# Altium schematic symbol library AP7361-33FGE-7.SchLib: 1 symbol
Pins are listed as number, name and electrical type; pins without a type are passive.

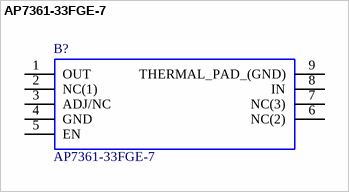
[diagram p0: symbol AP7361-33FGE-7]

## AP7361-33FGE-7
designator B?
DiodesZetex AP7361-33FGE-7, LDO Voltage Regulator, 1A, 3.3 V 3%, 2.2  6 Vin, 8-Pin DFN; Manufacturer_Name: Diodes Inc.; Geometry.Height: 0.6mm; Supplier_Name: RS; RS Part Number: 8228883; Manufacturer_Part_Number: AP7361-33FGE-7; Allied_Number: *; Other Part Number: *; Datasheet Link: https://www.diodes.com/assets/Datasheets/AP7361.pdf; 3D Package: *
footprint SON65P300X300X60-9N
pins: 1 OUT, 2 NC(1), 3 ADJ/NC, 4 GND, 5 EN, 6 NC(2), 7 NC(3), 8 IN, 9 THERMAL_PAD_(GND)